# Altium schematic symbol library DCDC.SchLib: 1 symbol
Pins are listed as number, name and electrical type; pins without a type are passive.

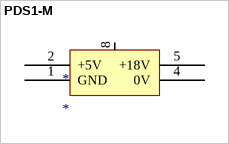
[diagram p0: symbol PDS1-M]

## PDS1-M
designator *
pins: 1 GND, 2 +5V, 4 0V, 5 +18V, 8